# EAGLE library part STM32F407_LQFP176 (library +Praktikanten)
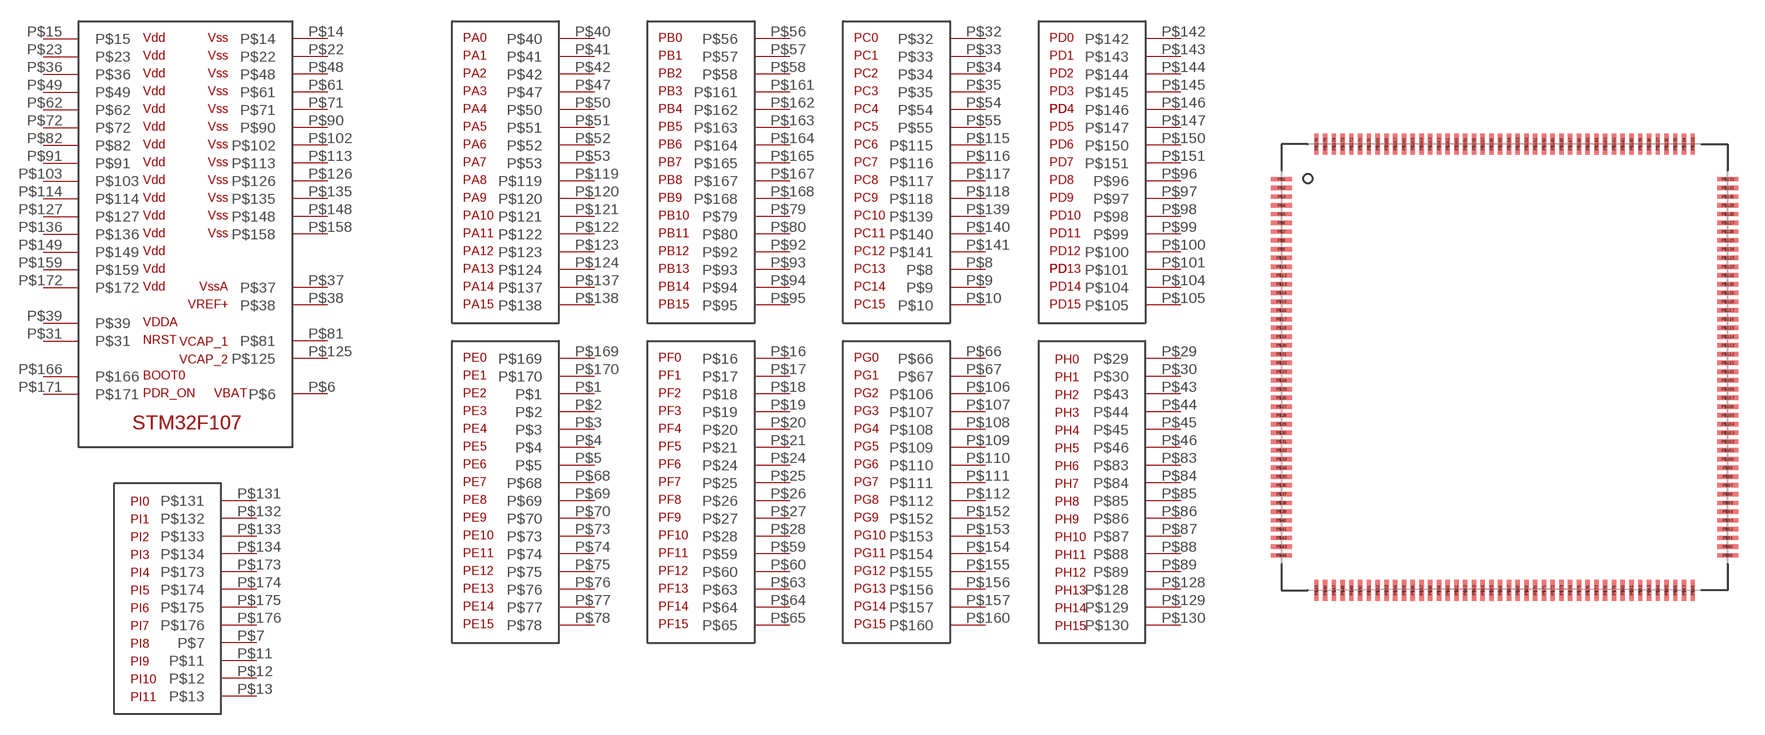
[diagram p11: symbol with the pads of STM32F407; footprint STM32F407]

Designator prefix I; gates G$1=STM32F407 G$2=STM32F407_PA G$3=STM32F407_PB G$4=STM32F407_PC G$5=STM32F407_PD G$6=STM32F407_PE G$7=STM32F407_PF G$8=STM332F407_PG G$9=STM32F407_PH G$10=STM32F407_PI

## STM32F407_LQFP176  [STM32F407]
P$1  G$6:P$1
P$2  G$6:P$2
P$3  G$6:P$3
P$4  G$6:P$4
P$5  G$6:P$5
P$6  G$1:P$6
P$7  G$10:P$7
P$8  G$4:P$8
P$9  G$4:P$9
P$10  G$4:P$10
P$11  G$10:P$11
P$12  G$10:P$12
P$13  G$10:P$13
P$14  G$1:P$14
P$15  G$1:P$15
P$16  G$7:P$16
P$17  G$7:P$17
P$18  G$7:P$18
P$19  G$7:P$19
P$20  G$7:P$20
P$21  G$7:P$21
P$22  G$1:P$22
P$23  G$1:P$23
P$24  G$7:P$24
P$25  G$7:P$25
P$26  G$7:P$26
P$27  G$7:P$27
P$28  G$7:P$28
P$29  G$9:P$29
P$30  G$9:P$30
P$31  G$1:P$31
P$32  G$4:P$32
P$33  G$4:P$33
P$34  G$4:P$34
P$35  G$4:P$35
P$36  G$1:P$36
P$37  G$1:P$37
P$38  G$1:P$38
P$39  G$1:P$39
P$40  G$2:P$40
P$41  G$2:P$41
P$42  G$2:P$42
P$43  G$9:P$43
P$44  G$9:P$44
P$45  G$9:P$45
P$46  G$9:P$46
P$47  G$2:P$47
P$48  G$1:P$48
P$49  G$1:P$49
P$50  G$2:P$50
P$51  G$2:P$51
P$52  G$2:P$52
P$53  G$2:P$53
P$54  G$4:P$54
P$55  G$4:P$55
P$56  G$3:P$56
P$57  G$3:P$57
P$58  G$3:P$58
P$59  G$7:P$59
P$60  G$7:P$60
P$61  G$1:P$61
P$62  G$1:P$62
P$63  G$7:P$63
P$64  G$7:P$64
P$65  G$7:P$65
P$66  G$8:P$66
P$67  G$8:P$67
P$68  G$6:P$68
P$69  G$6:P$69
P$70  G$6:P$70
P$71  G$1:P$71
P$72  G$1:P$72
P$73  G$6:P$73
P$74  G$6:P$74
P$75  G$6:P$75
P$76  G$6:P$76
P$77  G$6:P$77
P$78  G$6:P$78
P$79  G$3:P$79
P$80  G$3:P$80
P$81  G$1:P$81
P$82  G$1:P$82
P$83  G$9:P$83
P$84  G$9:P$84
P$85  G$9:P$85
P$86  G$9:P$86
P$87  G$9:P$87
P$88  G$9:P$88
P$89  G$9:P$89
P$90  G$1:P$90
P$91  G$1:P$91
P$92  G$3:P$92
P$93  G$3:P$93
P$94  G$3:P$94
P$95  G$3:P$95
P$96  G$5:P$96
P$97  G$5:P$97
P$98  G$5:P$98
P$99  G$5:P$99
P$100  G$5:P$100
P$101  G$5:P$101
P$102  G$1:P$102
P$103  G$1:P$103
P$104  G$5:P$104
P$105  G$5:P$105
P$106  G$8:P$106
P$107  G$8:P$107
P$108  G$8:P$108
P$109  G$8:P$109
P$110  G$8:P$110
P$111  G$8:P$111
P$112  G$8:P$112
P$113  G$1:P$113
P$114  G$1:P$114
P$115  G$4:P$115
P$116  G$4:P$116
P$117  G$4:P$117
P$118  G$4:P$118
P$119  G$2:P$119
P$120  G$2:P$120
P$121  G$2:P$121
P$122  G$2:P$122
P$123  G$2:P$123
P$124  G$2:P$124
P$125  G$1:P$125
P$126  G$1:P$126
P$127  G$1:P$127
P$128  G$9:P$128
P$129  G$9:P$129
P$130  G$9:P$130
P$131  G$10:P$131
P$132  G$10:P$132
P$133  G$10:P$133
P$134  G$10:P$134
P$135  G$1:P$135
P$136  G$1:P$136
P$137  G$2:P$137
P$138  G$2:P$138
P$139  G$4:P$139
P$140  G$4:P$140
P$141  G$4:P$141
P$142  G$5:P$142
P$143  G$5:P$143
P$144  G$5:P$144
P$145  G$5:P$145
P$146  G$5:P$146
P$147  G$5:P$147
P$148  G$1:P$148
P$149  G$1:P$149
P$150  G$5:P$150
P$151  G$5:P$151
P$152  G$8:P$152
P$153  G$8:P$153
P$154  G$8:P$154
P$155  G$8:P$155
P$156  G$8:P$156
P$157  G$8:P$157
P$158  G$1:P$158
P$159  G$1:P$159
P$160  G$8:P$160
P$161  G$3:P$161
P$162  G$3:P$162
P$163  G$3:P$163
P$164  G$3:P$164
P$165  G$3:P$165
P$166  G$1:P$166
P$167  G$3:P$167
P$168  G$3:P$168
P$169  G$6:P$169
P$170  G$6:P$170
P$171  G$1:P$171
P$172  G$1:P$172
P$173  G$10:P$173
P$174  G$10:P$174
P$175  G$10:P$175
P$176  G$10:P$176

## Footprint STM32F407 (pad centres in mm)
smd 1.2 x 0.25: P$1 -13,10; P$2 -13,9.5; P$3 -13,9; P$4 -13,8.5; P$5 -13,8; P$6 -13,7.5; P$7 -13,7; P$8 -13,6.5; P$9 -13,6; P$10 -13,5.5; P$11 -13,5; P$12 -13,4.5; P$13 -13,4; P$14 -13,3.5; P$15 -13,3; P$16 -13,2.5; P$17 -13,2; P$18 -13,1.5; P$19 -13,1; P$20 -13,0.5; P$21 -13,0; P$22 -13,-0.5; P$23 -13,-1; P$24 -13,-1.5; P$25 -13,-2; P$26 -13,-2.5; P$27 -13,-3; P$28 -13,-3.5; P$29 -13,-4; P$30 -13,-4.5; P$31 -13,-5; P$32 -13,-5.5; P$33 -13,-6; P$34 -13,-6.5; P$35 -13,-7; P$36 -13,-7.5; P$37 -13,-8; P$38 -13,-8.5; P$39 -13,-9; P$40 -13,-9.5; P$41 -13,-10; P$42 -13,-10.5; P$43 -13,-11; P$44 -13,-11.5; P$89 12.5,-11.5; P$90 12.5,-11; P$91 12.5,-10.5; P$92 12.5,-10; P$93 12.5,-9.5; P$94 12.5,-9; P$95 12.5,-8.5; P$96 12.5,-8; P$97 12.5,-7.5; P$98 12.5,-7; P$99 12.5,-6.5; P$100 12.5,-6; P$101 12.5,-5.5; P$102 12.5,-5; P$103 12.5,-4.5; P$104 12.5,-4; P$105 12.5,-3.5; P$106 12.5,-3; P$107 12.5,-2.5; P$108 12.5,-2; P$109 12.5,-1.5; P$110 12.5,-1; P$111 12.5,-0.5; P$112 12.5,0; P$113 12.5,0.5; P$114 12.5,1; P$115 12.5,1.5; P$116 12.5,2; P$117 12.5,2.5; P$118 12.5,3; P$119 12.5,3.5; P$120 12.5,4; P$121 12.5,4.5; P$122 12.5,5; P$123 12.5,5.5; P$124 12.5,6; P$125 12.5,6.5; P$126 12.5,7; P$127 12.5,7.5; P$128 12.5,8; P$129 12.5,8.5; P$130 12.5,9; P$131 12.5,9.5; P$132 12.5,10
smd 0.25 x 1.2: P$45 -11,-13.5; P$46 -10.5,-13.5; P$47 -10,-13.5; P$48 -9.5,-13.5; P$49 -9,-13.5; P$50 -8.5,-13.5; P$51 -8,-13.5; P$52 -7.5,-13.5; P$53 -7,-13.5; P$54 -6.5,-13.5; P$55 -6,-13.5; P$56 -5.5,-13.5; P$57 -5,-13.5; P$58 -4.5,-13.5; P$59 -4,-13.5; P$60 -3.5,-13.5; P$61 -3,-13.5; P$62 -2.5,-13.5; P$63 -2,-13.5; P$64 -1.5,-13.5; P$65 -1,-13.5; P$66 -0.5,-13.5; P$67 0,-13.5; P$68 0.5,-13.5; P$69 1,-13.5; P$70 1.5,-13.5; P$71 2,-13.5; P$72 2.5,-13.5; P$73 3,-13.5; P$74 3.5,-13.5; P$75 4,-13.5; P$76 4.5,-13.5; P$77 5,-13.5; P$78 5.5,-13.5; P$79 6,-13.5; P$80 6.5,-13.5; P$81 7,-13.5; P$82 7.5,-13.5; P$83 8,-13.5; P$84 8.5,-13.5; P$85 9,-13.5; P$86 9.5,-13.5; P$87 10,-13.5; P$88 10.5,-13.5; P$133 10.5,12; P$134 10,12; P$135 9.5,12; P$136 9,12; P$137 8.5,12; P$138 8,12; P$139 7.5,12; P$140 7,12; P$141 6.5,12; P$142 6,12; P$143 5.5,12; P$144 5,12; P$145 4.5,12; P$146 4,12; P$147 3.5,12; P$148 3,12; P$149 2.5,12; P$150 2,12; P$151 1.5,12; P$152 1,12; P$153 0.5,12; P$154 0,12; P$155 -0.5,12; P$156 -1,12; P$157 -1.5,12; P$158 -2,12; P$159 -2.5,12; P$160 -3,12; P$161 -3.5,12; P$162 -4,12; P$163 -4.5,12; P$164 -5,12; P$165 -5.5,12; P$166 -6,12; P$167 -6.5,12; P$168 -7,12; P$169 -7.5,12; P$170 -8,12; P$171 -8.5,12; P$172 -9,12; P$173 -9.5,12; P$174 -10,12; P$175 -10.5,12; P$176 -11,12